# EAGLE library part CON-1X6 (library steves)
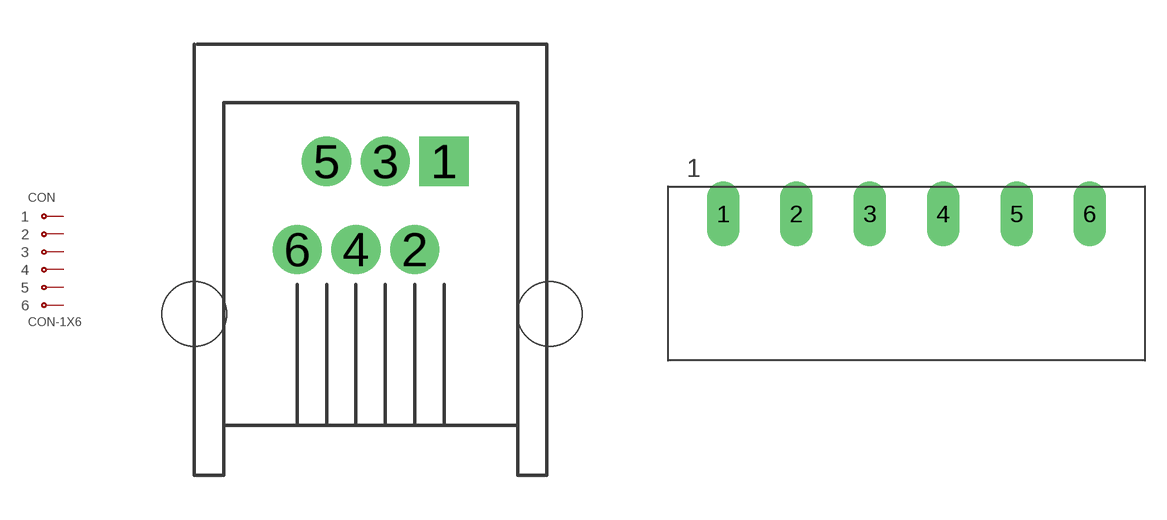
[diagram p7: symbol with the pads of RJ12-RA-JAYCAR; footprints RJ12-RA-JAYCAR, CON-PLUG-1X6]

Designator prefix CON

## CON-1X6RJ12-RA-A  [RJ12-RA-JAYCAR]
1  1  pas
2  2  pas
3  3  pas
4  4  pas
5  5  pas
6  6  pas

## CON-1X6PLUG-H  [CON-PLUG-1X6]
Pads as for RJ12-RA-JAYCAR

## CON-1X6HDR  [CON-HDR-1X6]
Pads as for RJ12-RA-JAYCAR

## CON-1X6MOLEX-KK256-RA  [CON-MOLEX-KK256-RA-1X6]
Pads as for RJ12-RA-JAYCAR

## Footprint RJ12-RA-JAYCAR (pad centres in mm)
Jaycar PS-1474.
drill 0.7 pad 1.676 square: 1 5,3
drill 0.7 pad 1.676: 2 4,0; 3 3,3; 4 2,0; 5 1,3; 6 0,0
hole 2.2 at -3.5,-2.2
hole 2.2 at 8.6,-2.2

## Footprint CON-PLUG-1X6 (pad centres in mm)
drill 1.5 long: 1 -12.7,0; 2 -7.62,0; 3 -2.54,0; 4 2.54,0; 5 7.62,0; 6 12.7,0

## Footprint CON-HDR-1X6 (pad centres in mm)
drill 0.9 pad 1.93 square: 1 0,6.35
drill 0.9 pad 1.93: 2 0,3.81; 3 0,1.27; 4 0,-1.27; 5 0,-3.81; 6 0,-6.35

## Footprint CON-MOLEX-KK256-RA-1X6 (pad centres in mm)
drill 0.9 pad 1.93 square: 1 0,0
drill 0.9 pad 1.93: 2 -2.54,0; 3 -5.08,0; 4 -7.62,0; 5 -10.16,0; 6 -12.7,0